# Altium schematic symbol library Eagle_WE-XTAL (rev21c) v1.SCHLIB: 18 symbols
Pins are listed as number, name and electrical type; pins without a type are passive.

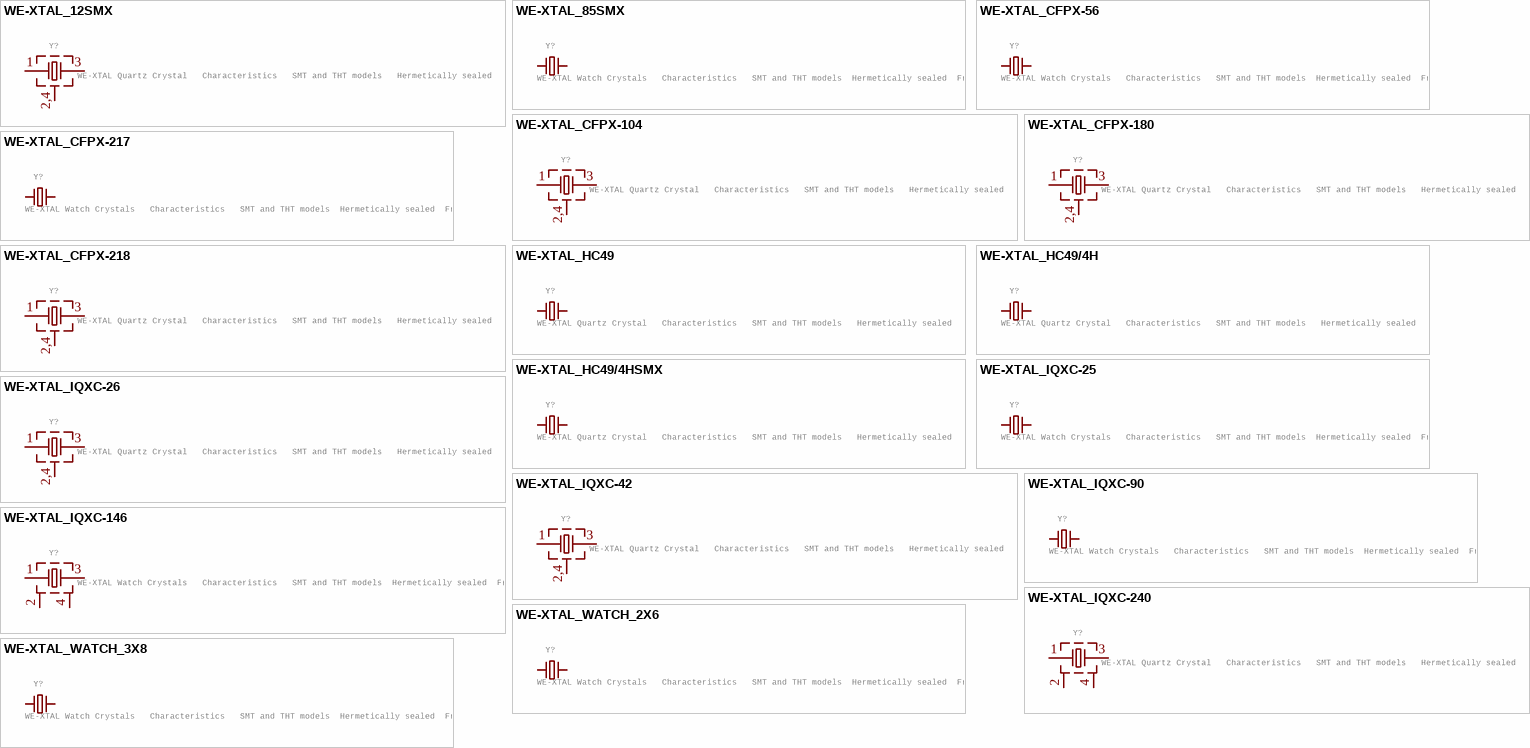
[diagram p0: symbols WE-XTAL_12SMX to WE-XTAL_WATCH_3X8]

## WE-XTAL_12SMX
designator Y?, comment WE-XTAL Quartz Crystal   Characteristics   SMT and THT models   Hermetically sealed   Frequencies between 1.8432 MHz and 50 MHz   Tolerances down to Â±10 ppm available   Maximum operating temperatures range: -40 Â°C to 85 Â°C   Stabilities down to Â±10 ppm available   Applications   Microprocessor   Wireless Communication Devices   Industrial Devices   Wired Communication (e.g. Ethernet and USB)   IoT   Optical Network   Audio and Multimedia Devices   Test and Measurement Equipment   Navigation and Locators   Wearables       Details see: https://www.we-online.com/catalog/en/WE-XTAL  Updated by Ella Wu , 2019-09-03  2019 (C) Wurth Elektronik
PART-NUMBER: 830026380; PART-NUMBER: 830026382; PART-NUMBER: 830026384; PART-NUMBER: 830026386; PART-NUMBER: 830026388; PART-NUMBER: 830026392; PART-NUMBER: 830026394; PART-NUMBER: 830026396; PART-NUMBER: 830026504; PART-NUMBER: 830059082; GateName_1: G$1; SymbolName_1: CRYSTAL-4PIN; DeviceSetName: WE-XTAL_12SMX; C-LOAD: 16pF; STABILITY: 50ppm; TOLERANCE: ±30ppm; C-LOAD: 10pF; TOLERANCE: ±20ppm; LibraryName: Eagle_WE-XTAL (rev21c) v1; Package: WE-XTAL_12SMX; DATASHEET-URL: https://www.we-online.com/catalog/datasheet/830026380.pdf; MOUNT: SMT; DATASHEET-URL: https://www.we-online.com/catalog/datasheet/830026382.pdf; DATASHEET-URL: https://www.we-online.com/catalog/datasheet/830026384.pdf; DATASHEET-URL: https://www.we-online.com/catalog/datasheet/830026386.pdf; DATASHEET-URL: https://www.we-online.com/catalog/datasheet/830026388.pdf; DATASHEET-URL: https://www.we-online.com/catalog/datasheet/830026392.pdf; DATASHEET-URL: https://www.we-online.com/catalog/datasheet/830026394.pdf; DATASHEET-URL: https://www.we-online.com/catalog/datasheet/830026396.pdf; DATASHEET-URL: https://www.we-online.com/catalog/datasheet/830026504.pdf; DATASHEET-URL: https://www.we-online.com/catalog/datasheet/830059082.pdf
footprint WE-XTAL_12SMX
pins: 1, 2,4 GND, 3 2

## WE-XTAL_85SMX
designator Y?, comment WE-XTAL Watch Crystals   Characteristics   SMT and THT models  Hermetically sealed  Frequency: 32.768 kHz  Tolerances down to Â±10 ppm available   Characteristics   Microprocessor  Real Time Clocks  Test and Measurement Equipment  Battery powered Applications       Details see: https://www.we-online.com/catalog/en/WE-XTAL_WATCHCRYSTAL  Updated by Ella Wu, 2020-10-30  2020 (C) Wurth Elektronik
PART-NUMBER: 830003000; PART-NUMBER: 830016178; GateName_1: G$1; DeviceSetName: WE-XTAL_85SMX; C-LOAD: 12.5pF; TOLERANCE: ±20ppm; C-LOAD: 6pF; SymbolName_1: CRYSTAL; LibraryName: Eagle_WE-XTAL (rev21c) v1; Package: WE-XTAL_85SMX; DATASHEET-URL: https://www.we-online.com/catalog/datasheet/830003000.pdf; MOUNT: SMT; DATASHEET-URL: https://www.we-online.com/catalog/datasheet/830016178.pdf
footprint WE-XTAL_85SMX
pins: 1, 4 2

## WE-XTAL_CFPX-56
designator Y?, comment WE-XTAL Watch Crystals   Characteristics   SMT and THT models  Hermetically sealed  Frequency: 32.768 kHz  Tolerances down to Â±10 ppm available   Characteristics   Microprocessor  Real Time Clocks  Test and Measurement Equipment  Battery powered Applications       Details see: https://www.we-online.com/catalog/en/WE-XTAL_WATCHCRYSTAL  Updated by Ella Wu, 2020-10-30  2020 (C) Wurth Elektronik
PART-NUMBER: 830025159; GateName_1: G$1; DeviceSetName: WE-XTAL_CFPX-56; C-LOAD: 12.5pF; TOLERANCE: ±20ppm; SymbolName_1: CRYSTAL; LibraryName: Eagle_WE-XTAL (rev21c) v1; Package: WE-XTAL_CFPX-56; DATASHEET-URL: https://www.we-online.com/catalog/datasheet/830025159.pdf; MOUNT: SMT
footprint WE-XTAL_CFPX-56
pins: 1, 2

## WE-XTAL_CFPX-104
designator Y?, comment WE-XTAL Quartz Crystal   Characteristics   SMT and THT models   Hermetically sealed   Frequencies between 1.8432 MHz and 50 MHz   Tolerances down to Â±10 ppm available   Maximum operating temperatures range: -40 Â°C to 85 Â°C   Stabilities down to Â±10 ppm available   Applications   Microprocessor   Wireless Communication Devices   Industrial Devices   Wired Communication (e.g. Ethernet and USB)   IoT   Optical Network   Audio and Multimedia Devices   Test and Measurement Equipment   Navigation and Locators   Wearables       Details see: https://www.we-online.com/catalog/en/WE-XTAL  Updated by Ella Wu , 2020-11-23 2020 (C) Wurth Elektronik
PART-NUMBER: 830030819; PART-NUMBER: 830030820; PART-NUMBER: 830032817; PART-NUMBER: 830032878; PART-NUMBER: 830033075; PART-NUMBER: 830033328; PART-NUMBER: 830033643; PART-NUMBER: 830033644; PART-NUMBER: 830033645; PART-NUMBER: 830036401; PART-NUMBER: 830053798; PART-NUMBER: 830055663; PART-NUMBER: 830055901; PART-NUMBER: 830055999; PART-NUMBER: 830056556; PART-NUMBER: 830056583; PART-NUMBER: 830056808; PART-NUMBER: 830059477; PART-NUMBER: 830059522; PART-NUMBER: 830059523; PART-NUMBER: 830059526; PART-NUMBER: 830059528; PART-NUMBER: 830059529; PART-NUMBER: 830059530; PART-NUMBER: 830059531; PART-NUMBER: 830059532; PART-NUMBER: 830059535; PART-NUMBER: 830059537; PART-NUMBER: 830059539; PART-NUMBER: 830061486; PART-NUMBER: 830065460; PART-NUMBER: 830072402; PART-NUMBER: 830072403; PART-NUMBER: 830072404; PART-NUMBER: 830106162701; PART-NUMBER: 830106163301; GateName_1: G$1; SymbolName_1: CRYSTAL-4PIN; DeviceSetName: WE-XTAL_CFPX-104; C-LOAD: 18pF; STABILITY: 50ppm; TOLERANCE: ±50ppm; TOLERANCE: ±20ppm; STABILITY: 25ppm; TOLERANCE: ±10ppm; STABILITY: 30ppm; TOLERANCE: ±30ppm; C-LOAD: 12pF; C-LOAD: 15pF; STABILITY: 20ppm; C-LOAD: 10pF; C-LOAD: 16pF; LibraryName: Eagle_WE-XTAL (rev21c) v1; Package: WE-XTAL_CFPX-104; DATASHEET-URL: https://www.we-online.com/catalog/datasheet/830030819.pdf; MOUNT: SMT; DATASHEET-URL: https://www.we-online.com/catalog/datasheet/830030820.pdf; DATASHEET-URL: https://www.we-online.com/catalog/datasheet/830032817.pdf; DATASHEET-URL: https://www.we-online.com/catalog/datasheet/830032878.pdf; DATASHEET-URL: https://www.we-online.com/catalog/datasheet/830033075.pdf; DATASHEET-URL: https://www.we-online.com/catalog/datasheet/830033328.pdf; DATASHEET-URL: https://www.we-online.com/catalog/datasheet/830033643.pdf; DATASHEET-URL: https://www.we-online.com/catalog/datasheet/830033644.pdf; DATASHEET-URL: https://www.we-online.com/catalog/datasheet/830033645.pdf; DATASHEET-URL: https://www.we-online.com/catalog/datasheet/830036401.pdf; DATASHEET-URL: https://www.we-online.com/catalog/datasheet/830053798.pdf; DATASHEET-URL: https://www.we-online.com/catalog/datasheet/830055663.pdf; DATASHEET-URL: https://www.we-online.com/catalog/datasheet/830055901.pdf; DATASHEET-URL: https://www.we-online.com/catalog/datasheet/830055999.pdf; DATASHEET-URL: https://www.we-online.com/catalog/datasheet/830056556.pdf; DATASHEET-URL: https://www.we-online.com/catalog/datasheet/830056583.pdf; DATASHEET-URL: https://www.we-online.com/catalog/datasheet/830056808.pdf; DATASHEET-URL: https://www.we-online.com/catalog/datasheet/830059477.pdf; DATASHEET-URL: https://www.we-online.com/catalog/datasheet/830059522.pdf; DATASHEET-URL: https://www.we-online.com/catalog/datasheet/830059523.pdf; DATASHEET-URL: https://www.we-online.com/catalog/datasheet/830059526.pdf; DATASHEET-URL: https://www.we-online.com/catalog/datasheet/830059528.pdf; DATASHEET-URL: https://www.we-online.com/catalog/datasheet/830059529.pdf; DATASHEET-URL: https://www.we-online.com/catalog/datasheet/830059530.pdf; DATASHEET-URL: https://www.we-online.com/catalog/datasheet/830059531.pdf; DATASHEET-URL: https://www.we-online.com/catalog/datasheet/830059532.pdf; DATASHEET-URL: https://www.we-online.com/catalog/datasheet/830059535.pdf; DATASHEET-URL: https://www.we-online.com/catalog/datasheet/830059537.pdf; DATASHEET-URL: https://www.we-online.com/catalog/datasheet/830059539.pdf; DATASHEET-URL: https://www.we-online.com/catalog/datasheet/830061486.pdf; DATASHEET-URL: https://www.we-online.com/catalog/datasheet/830065460.pdf; DATASHEET-URL: https://www.we-online.com/catalog/datasheet/830072402.pdf; DATASHEET-URL: https://www.we-online.com/catalog/datasheet/830072403.pdf; DATASHEET-URL: https://www.we-online.com/catalog/datasheet/830072404.pdf; DATASHEET-URL: https://www.we-online.com/catalog/datasheet/830106162701.pdf; DATASHEET-URL: https://www.we-online.com/catalog/datasheet/830106163301.pdf
footprint WE-XTAL_CFPX-104
pins: 1, 2,4 GND, 3 2

## WE-XTAL_CFPX-180
designator Y?, comment WE-XTAL Quartz Crystal   Characteristics   SMT and THT models   Hermetically sealed   Frequencies between 1.8432 MHz and 50 MHz   Tolerances down to Â±10 ppm available   Maximum operating temperatures range: -40 Â°C to 85 Â°C   Stabilities down to Â±10 ppm available   Applications   Microprocessor   Wireless Communication Devices   Industrial Devices   Wired Communication (e.g. Ethernet and USB)   IoT   Optical Network   Audio and Multimedia Devices   Test and Measurement Equipment   Navigation and Locators   Wearables       Details see: https://www.we-online.com/catalog/en/WE-XTAL  Updated by Ella Wu , 2020-11-23 2020 (C) Wurth Elektronik
PART-NUMBER: 830035264; PART-NUMBER: 830035265; PART-NUMBER: 830035266; PART-NUMBER: 830035267; PART-NUMBER: 830035268; PART-NUMBER: 830035269; PART-NUMBER: 830035503; PART-NUMBER: 830051068; PART-NUMBER: 830053099; PART-NUMBER: 830055293; PART-NUMBER: 830055295; PART-NUMBER: 830055299; PART-NUMBER: 830055474; PART-NUMBER: 830055951; PART-NUMBER: 830055962; PART-NUMBER: 830056346; PART-NUMBER: 830057824; PART-NUMBER: 830058124; PART-NUMBER: 830058149; PART-NUMBER: 830059638; PART-NUMBER: 830059643; PART-NUMBER: 830059646; PART-NUMBER: 830059648; PART-NUMBER: 830059800; PART-NUMBER: 830060258; PART-NUMBER: 830060843; PART-NUMBER: 830061647; PART-NUMBER: 830061648; PART-NUMBER: 830061677; PART-NUMBER: 830063321; PART-NUMBER: 830064296; PART-NUMBER: 830064703; PART-NUMBER: 830068911; PART-NUMBER: 830069377; PART-NUMBER: 830069882; PART-NUMBER: 830069944; PART-NUMBER: 830070868; PART-NUMBER: 830072604; PART-NUMBER: 830082070; PART-NUMBER: 830100965009; PART-NUMBER: 830103552209; PART-NUMBER: 830103622909; PART-NUMBER: 830105420809; PART-NUMBER: 830105863709; PART-NUMBER: 830105957509; PART-NUMBER: 830105961109; PART-NUMBER: 830105961309; PART-NUMBER: 830105961509; PART-NUMBER: 830105961709; PART-NUMBER: 830106246109; PART-NUMBER: 830107006509; PART-NUMBER: 830107878109; PART-NUMBER: 830108174209; PART-NUMBER: 830108206909; PART-NUMBER: 830108207109; PART-NUMBER: 830108207209; PART-NUMBER: 830108207309; PART-NUMBER: 830108207409; PART-NUMBER: 830108207509; PART-NUMBER: 830108207609; PART-NUMBER: 830108207709; PART-NUMBER: 830108207809; PART-NUMBER: 830108313809; PART-NUMBER: 830108338709; PART-NUMBER: 830108338809; PART-NUMBER: 830108340709; PART-NUMBER: 830108340809; PART-NUMBER: 830108340909; GateName_1: G$1; SymbolName_1: CRYSTAL-4PIN; DeviceSetName: WE-XTAL_CFPX-180; C-LOAD: 16pF; STABILITY: 50ppm; TOLERANCE: ±50ppm; C-LOAD: 9pF; STABILITY: 10ppm; TOLERANCE: ±10ppm; C-LOAD: 10pF; C-LOAD: 18pF; STABILITY: 30ppm; TOLERANCE: ±20ppm; C-LOAD: 12pF; TOLERANCE: ±30ppm; STABILITY: 25ppm; TOLERANCE: ±25ppm; C-LOAD: 8pF; STABILITY: 20ppm; STABILITY: 100ppm; C-LOAD: 15pF; STABILITY: 15ppm; LibraryName: Eagle_WE-XTAL (rev21c) v1; Package: WE-XTAL_CFPX-180; DATASHEET-URL: https://www.we-online.com/catalog/datasheet/830035264.pdf; MOUNT: SMT; DATASHEET-URL: https://www.we-online.com/catalog/datasheet/830035265.pdf; DATASHEET-URL: https://www.we-online.com/catalog/datasheet/830035266.pdf; DATASHEET-URL: https://www.we-online.com/catalog/datasheet/830035267.pdf; DATASHEET-URL: https://www.we-online.com/catalog/datasheet/830035268.pdf; DATASHEET-URL: https://www.we-online.com/catalog/datasheet/830035269.pdf; DATASHEET-URL: https://www.we-online.com/catalog/datasheet/830035503.pdf; DATASHEET-URL: https://www.we-online.com/catalog/datasheet/830051068.pdf; DATASHEET-URL: https://www.we-online.com/catalog/datasheet/830053099.pdf; DATASHEET-URL: https://www.we-online.com/catalog/datasheet/830055293.pdf; DATASHEET-URL: https://www.we-online.com/catalog/datasheet/830055295.pdf; DATASHEET-URL: https://www.we-online.com/catalog/datasheet/830055299.pdf; DATASHEET-URL: https://www.we-online.com/catalog/datasheet/830055474.pdf; DATASHEET-URL: https://www.we-online.com/catalog/datasheet/830055951.pdf; DATASHEET-URL: https://www.we-online.com/catalog/datasheet/830055962.pdf; DATASHEET-URL: https://www.we-online.com/catalog/datasheet/830056346.pdf; DATASHEET-URL: https://www.we-online.com/catalog/datasheet/830057824.pdf; DATASHEET-URL: https://www.we-online.com/catalog/datasheet/830058124.pdf; DATASHEET-URL: https://www.we-online.com/catalog/datasheet/830058149.pdf; DATASHEET-URL: https://www.we-online.com/catalog/datasheet/830059638.pdf; DATASHEET-URL: https://www.we-online.com/catalog/datasheet/830059643.pdf; DATASHEET-URL: https://www.we-online.com/catalog/datasheet/830059646.pdf; DATASHEET-URL: https://www.we-online.com/catalog/datasheet/830059648.pdf; DATASHEET-URL: https://www.we-online.com/catalog/datasheet/830059800.pdf; DATASHEET-URL: https://www.we-online.com/catalog/datasheet/830060258.pdf; DATASHEET-URL: https://www.we-online.com/catalog/datasheet/830060843.pdf; DATASHEET-URL: https://www.we-online.com/catalog/datasheet/830061647.pdf; DATASHEET-URL: https://www.we-online.com/catalog/datasheet/830061648.pdf; DATASHEET-URL: https://www.we-online.com/catalog/datasheet/830061677.pdf; DATASHEET-URL: https://www.we-online.com/catalog/datasheet/830063321.pdf; DATASHEET-URL: https://www.we-online.com/catalog/datasheet/830064296.pdf; DATASHEET-URL: https://www.we-online.com/catalog/datasheet/830064703.pdf; DATASHEET-URL: https://www.we-online.com/catalog/datasheet/830068911.pdf; DATASHEET-URL: https://www.we-online.com/catalog/datasheet/830069377.pdf; DATASHEET-URL: https://www.we-online.com/catalog/datasheet/830069882.pdf; DATASHEET-URL: https://www.we-online.com/catalog/datasheet/830069944.pdf; DATASHEET-URL: https://www.we-online.com/catalog/datasheet/830070868.pdf; DATASHEET-URL: https://www.we-online.com/catalog/datasheet/830072604.pdf; DATASHEET-URL: https://www.we-online.com/catalog/datasheet/830082070.pdf; DATASHEET-URL: https://www.we-online.com/catalog/datasheet/830100965009.pdf; DATASHEET-URL: https://www.we-online.com/catalog/datasheet/830103552209.pdf; DATASHEET-URL: https://www.we-online.com/catalog/datasheet/830103622909.pdf; DATASHEET-URL: https://www.we-online.com/catalog/datasheet/830105420809.pdf; DATASHEET-URL: https://www.we-online.com/catalog/datasheet/830105863709.pdf; DATASHEET-URL: https://www.we-online.com/catalog/datasheet/830105957509.pdf; DATASHEET-URL: https://www.we-online.com/catalog/datasheet/830105961109.pdf; DATASHEET-URL: https://www.we-online.com/catalog/datasheet/830105961309.pdf; DATASHEET-URL: https://www.we-online.com/catalog/datasheet/830105961509.pdf; DATASHEET-URL: https://www.we-online.com/catalog/datasheet/830105961709.pdf; DATASHEET-URL: https://www.we-online.com/catalog/datasheet/830106246109.pdf; DATASHEET-URL: https://www.we-online.com/catalog/datasheet/830107006509.pdf; DATASHEET-URL: https://www.we-online.com/catalog/datasheet/830107878109.pdf; DATASHEET-URL: https://www.we-online.com/catalog/datasheet/830108174209.pdf; DATASHEET-URL: https://www.we-online.com/catalog/datasheet/830108206909.pdf; DATASHEET-URL: https://www.we-online.com/catalog/datasheet/830108207109.pdf; DATASHEET-URL: https://www.we-online.com/catalog/datasheet/830108207209.pdf; DATASHEET-URL: https://www.we-online.com/catalog/datasheet/830108207309.pdf; DATASHEET-URL: https://www.we-online.com/catalog/datasheet/830108207409.pdf; DATASHEET-URL: https://www.we-online.com/catalog/datasheet/830108207509.pdf; DATASHEET-URL: https://www.we-online.com/catalog/datasheet/830108207609.pdf; DATASHEET-URL: https://www.we-online.com/catalog/datasheet/830108207709.pdf; DATASHEET-URL: https://www.we-online.com/catalog/datasheet/830108207809.pdf; DATASHEET-URL: https://www.we-online.com/catalog/datasheet/830108313809.pdf; DATASHEET-URL: https://www.we-online.com/catalog/datasheet/830108338709.pdf; DATASHEET-URL: https://www.we-online.com/catalog/datasheet/830108338809.pdf; DATASHEET-URL: https://www.we-online.com/catalog/datasheet/830108340709.pdf; DATASHEET-URL: https://www.we-online.com/catalog/datasheet/830108340809.pdf; DATASHEET-URL: https://www.we-online.com/catalog/datasheet/830108340909.pdf
footprint WE-XTAL_CFPX-180
pins: 1, 2,4 GND, 3 2

## WE-XTAL_CFPX-217
designator Y?, comment WE-XTAL Watch Crystals   Characteristics   SMT and THT models  Hermetically sealed  Frequency: 32.768 kHz  Tolerances down to Â±10 ppm available   Characteristics   Microprocessor  Real Time Clocks  Test and Measurement Equipment  Battery powered Applications       Details see: https://www.we-online.com/catalog/en/WE-XTAL_WATCHCRYSTAL  Updated by Ella Wu, 2020-10-30  2020 (C) Wurth Elektronik
PART-NUMBER: 830009678; PART-NUMBER: 830009706; PART-NUMBER: 830009709; PART-NUMBER: 830054236; GateName_1: G$1; DeviceSetName: WE-XTAL_CFPX-217; C-LOAD: 12.5pF; TOLERANCE: ±20ppm; C-LOAD: 9pF; C-LOAD: 7pF; C-LOAD: 6pF; SymbolName_1: CRYSTAL; LibraryName: Eagle_WE-XTAL (rev21c) v1; Package: WE-XTAL_CFPX-217; DATASHEET-URL: https://www.we-online.com/catalog/datasheet/830009678.pdf; MOUNT: SMT; DATASHEET-URL: https://www.we-online.com/catalog/datasheet/830009706.pdf; DATASHEET-URL: https://www.we-online.com/catalog/datasheet/830009709.pdf; DATASHEET-URL: https://www.we-online.com/catalog/datasheet/830054236.pdf
footprint WE-XTAL_CFPX-217
pins: 1, 2

## WE-XTAL_CFPX-218
designator Y?, comment WE-XTAL Quartz Crystal   Characteristics   SMT and THT models   Hermetically sealed   Frequencies between 1.8432 MHz and 50 MHz   Tolerances down to Â±10 ppm available   Maximum operating temperatures range: -40 Â°C to 85 Â°C   Stabilities down to Â±10 ppm available   Applications   Microprocessor   Wireless Communication Devices   Industrial Devices   Wired Communication (e.g. Ethernet and USB)   IoT   Optical Network   Audio and Multimedia Devices   Test and Measurement Equipment   Navigation and Locators   Wearables       Details see: https://www.we-online.com/catalog/en/WE-XTAL  Updated by Ella Wu , 2019-09-03  2019 (C) Wurth Elektronik
PART-NUMBER: 830050991; PART-NUMBER: 830063334; PART-NUMBER: 830069381; PART-NUMBER: 830069383; PART-NUMBER: 830069387; PART-NUMBER: 830069390; PART-NUMBER: 830069392; PART-NUMBER: 830069395; PART-NUMBER: 830069400; PART-NUMBER: 830069404; PART-NUMBER: 830069405; PART-NUMBER: 830069407; PART-NUMBER: 830107284409; PART-NUMBER: 830107820709; PART-NUMBER: 830107871909; PART-NUMBER: 830108186509; PART-NUMBER: 830108208009; PART-NUMBER: 830108208109; PART-NUMBER: 830108208209; PART-NUMBER: 830108208409; PART-NUMBER: 830108208709; PART-NUMBER: 830108208809; GateName_1: G$1; SymbolName_1: CRYSTAL-4PIN; DeviceSetName: WE-XTAL_CFPX-218; C-LOAD: 10pF; STABILITY: 20ppm; TOLERANCE: ±20ppm; C-LOAD: 18pF; STABILITY: 10ppm; TOLERANCE: ±10ppm; LibraryName: Eagle_WE-XTAL (rev21c) v1; Package: WE-XTAL_CFPX-218; DATASHEET-URL: https://www.we-online.com/catalog/datasheet/830050991.pdf; MOUNT: SMT; DATASHEET-URL: https://www.we-online.com/catalog/datasheet/830063334.pdf; DATASHEET-URL: https://www.we-online.com/catalog/datasheet/830069381.pdf; DATASHEET-URL: https://www.we-online.com/catalog/datasheet/830069383.pdf; DATASHEET-URL: https://www.we-online.com/catalog/datasheet/830069387.pdf; DATASHEET-URL: https://www.we-online.com/catalog/datasheet/830069390.pdf; DATASHEET-URL: https://www.we-online.com/catalog/datasheet/830069392.pdf; DATASHEET-URL: https://www.we-online.com/catalog/datasheet/830069395.pdf; DATASHEET-URL: https://www.we-online.com/catalog/datasheet/830069400.pdf; DATASHEET-URL: https://www.we-online.com/catalog/datasheet/830069404.pdf; DATASHEET-URL: https://www.we-online.com/catalog/datasheet/830069405.pdf; DATASHEET-URL: https://www.we-online.com/catalog/datasheet/830069407.pdf; DATASHEET-URL: https://www.we-online.com/catalog/datasheet/830107284409.pdf; DATASHEET-URL: https://www.we-online.com/catalog/datasheet/830107820709.pdf; DATASHEET-URL: https://www.we-online.com/catalog/datasheet/830107871909.pdf; DATASHEET-URL: https://www.we-online.com/catalog/datasheet/830108186509.pdf; DATASHEET-URL: https://www.we-online.com/catalog/datasheet/830108208009.pdf; DATASHEET-URL: https://www.we-online.com/catalog/datasheet/830108208109.pdf; DATASHEET-URL: https://www.we-online.com/catalog/datasheet/830108208209.pdf; DATASHEET-URL: https://www.we-online.com/catalog/datasheet/830108208409.pdf; DATASHEET-URL: https://www.we-online.com/catalog/datasheet/830108208709.pdf; DATASHEET-URL: https://www.we-online.com/catalog/datasheet/830108208809.pdf
footprint WE-XTAL_CFPX-218
pins: 1, 2,4 GND, 3 2

## WE-XTAL_HC49
designator Y?, comment WE-XTAL Quartz Crystal   Characteristics   SMT and THT models   Hermetically sealed   Frequencies between 1.8432 MHz and 50 MHz   Tolerances down to Â±10 ppm available   Maximum operating temperatures range: -40 Â°C to 85 Â°C   Stabilities down to Â±10 ppm available   Applications   Microprocessor   Wireless Communication Devices   Industrial Devices   Wired Communication (e.g. Ethernet and USB)   IoT   Optical Network   Audio and Multimedia Devices   Test and Measurement Equipment   Navigation and Locators   Wearables       Details see: https://www.we-online.com/catalog/en/WE-XTAL  Updated by Ella Wu , 2019-09-03  2019 (C) Wurth Elektronik
PART-NUMBER: 830003033B; PART-NUMBER: 830003037B; PART-NUMBER: 830003044B; PART-NUMBER: 830003051B; PART-NUMBER: 830003056B; PART-NUMBER: 830003068B; PART-NUMBER: 830003086B; PART-NUMBER: 830003099B; PART-NUMBER: 830003110B; PART-NUMBER: 830003127B; PART-NUMBER: 830003134B; PART-NUMBER: 830003147B; PART-NUMBER: 830003164B; PART-NUMBER: 830003174B; PART-NUMBER: 830003177B; PART-NUMBER: 830003179B; PART-NUMBER: 830003206B; PART-NUMBER: 830003218B; PART-NUMBER: 830003231B; PART-NUMBER: 830003257B; PART-NUMBER: 830003277B; PART-NUMBER: 830003298B; PART-NUMBER: 830003312B; PART-NUMBER: 830003327B; PART-NUMBER: 830003329B; PART-NUMBER: 830003342B; PART-NUMBER: 830003386B; PART-NUMBER: 830003515B; GateName_1: G$1; DeviceSetName: WE-XTAL_HC49; C-LOAD: 30pF; STABILITY: 50ppm; TOLERANCE: ±20ppm; C-LOAD: 20pF; STABILITY: 100ppm; TOLERANCE: ±50ppm; C-LOAD: 12pF; STABILITY: 30ppm; SymbolName_1: CRYSTAL; LibraryName: Eagle_WE-XTAL (rev21c) v1; Package: WE-XTAL_HC49; DATASHEET-URL: https://www.we-online.com/catalog/datasheet/830003033B.pdf; MOUNT: THT; DATASHEET-URL: https://www.we-online.com/catalog/datasheet/830003037B.pdf; DATASHEET-URL: https://www.we-online.com/catalog/datasheet/830003044B.pdf; DATASHEET-URL: https://www.we-online.com/catalog/datasheet/830003051B.pdf; DATASHEET-URL: https://www.we-online.com/catalog/datasheet/830003056B.pdf; DATASHEET-URL: https://www.we-online.com/catalog/datasheet/830003068B.pdf; DATASHEET-URL: https://www.we-online.com/catalog/datasheet/830003086B.pdf; DATASHEET-URL: https://www.we-online.com/catalog/datasheet/830003099B.pdf; DATASHEET-URL: https://www.we-online.com/catalog/datasheet/830003110B.pdf; DATASHEET-URL: https://www.we-online.com/catalog/datasheet/830003127B.pdf; DATASHEET-URL: https://www.we-online.com/catalog/datasheet/830003134B.pdf; DATASHEET-URL: https://www.we-online.com/catalog/datasheet/830003147B.pdf; DATASHEET-URL: https://www.we-online.com/catalog/datasheet/830003164B.pdf; C-LOAD: -; DATASHEET-URL: https://www.we-online.com/catalog/datasheet/830003174B.pdf; DATASHEET-URL: https://www.we-online.com/catalog/datasheet/830003177B.pdf; DATASHEET-URL: https://www.we-online.com/catalog/datasheet/830003179B.pdf; DATASHEET-URL: https://www.we-online.com/catalog/datasheet/830003206B.pdf; DATASHEET-URL: https://www.we-online.com/catalog/datasheet/830003218B.pdf; DATASHEET-URL: https://www.we-online.com/catalog/datasheet/830003231B.pdf; DATASHEET-URL: https://www.we-online.com/catalog/datasheet/830003257B.pdf; DATASHEET-URL: https://www.we-online.com/catalog/datasheet/830003277B.pdf; DATASHEET-URL: https://www.we-online.com/catalog/datasheet/830003298B.pdf; DATASHEET-URL: https://www.we-online.com/catalog/datasheet/830003312B.pdf; DATASHEET-URL: https://www.we-online.com/catalog/datasheet/830003327B.pdf; DATASHEET-URL: https://www.we-online.com/catalog/datasheet/830003329B.pdf; DATASHEET-URL: https://www.we-online.com/catalog/datasheet/830003342B.pdf; DATASHEET-URL: https://www.we-online.com/catalog/datasheet/830003386B.pdf; DATASHEET-URL: https://www.we-online.com/catalog/datasheet/830003515B.pdf
footprint WE-XTAL_HC49
pins: 1, 2

## WE-XTAL_HC49/4H
designator Y?, comment WE-XTAL Quartz Crystal   Characteristics   SMT and THT models   Hermetically sealed   Frequencies between 1.8432 MHz and 50 MHz   Tolerances down to Â±10 ppm available   Maximum operating temperatures range: -40 Â°C to 85 Â°C   Stabilities down to Â±10 ppm available   Applications   Microprocessor   Wireless Communication Devices   Industrial Devices   Wired Communication (e.g. Ethernet and USB)   IoT   Optical Network   Audio and Multimedia Devices   Test and Measurement Equipment   Navigation and Locators   Wearables       Details see: https://www.we-online.com/catalog/en/WE-XTAL  Updated by Ella Wu , 2019-09-03  2019 (C) Wurth Elektronik
PART-NUMBER: 830003063B; PART-NUMBER: 830003074B; PART-NUMBER: 830003084B; PART-NUMBER: 830003093B; PART-NUMBER: 830003102B; PART-NUMBER: 830003115B; PART-NUMBER: 830003119B; PART-NUMBER: 830003132B; PART-NUMBER: 830003137B; PART-NUMBER: 830003156B; PART-NUMBER: 830003169B; PART-NUMBER: 830003176B; PART-NUMBER: 830003185B; PART-NUMBER: 830003186B; PART-NUMBER: 830003200B; PART-NUMBER: 830003215B; PART-NUMBER: 830003224B; PART-NUMBER: 830003240B; PART-NUMBER: 830003263B; PART-NUMBER: 830003271B; PART-NUMBER: 830003279B; PART-NUMBER: 830003286B; PART-NUMBER: 830003309B; PART-NUMBER: 830003325B; PART-NUMBER: 830003335B; PART-NUMBER: 830003336B; PART-NUMBER: 830003523B; PART-NUMBER: 830014948B; PART-NUMBER: 830018496B; PART-NUMBER: 830024985B; PART-NUMBER: 830027298B; PART-NUMBER: 830031646B; PART-NUMBER: 830032341B; PART-NUMBER: 830058383B; GateName_1: G$1; DeviceSetName: WE-XTAL_HC49/4H; C-LOAD: 20pF; STABILITY: 50ppm; TOLERANCE: ±30ppm; C-LOAD: 30pF; TOLERANCE: ±20ppm; C-LOAD: 12pF; C-LOAD: 18pF; STABILITY: 30ppm; TOLERANCE: ±15ppm; SymbolName_1: CRYSTAL; LibraryName: Eagle_WE-XTAL (rev21c) v1; Package: WE-XTAL_HC49/4H; DATASHEET-URL: https://www.we-online.com/catalog/datasheet/830003063B.pdf; MOUNT: THT; DATASHEET-URL: https://www.we-online.com/catalog/datasheet/830003074B.pdf; DATASHEET-URL: https://www.we-online.com/catalog/datasheet/830003084B.pdf; DATASHEET-URL: https://www.we-online.com/catalog/datasheet/830003093B.pdf; DATASHEET-URL: https://www.we-online.com/catalog/datasheet/830003102B.pdf; DATASHEET-URL: https://www.we-online.com/catalog/datasheet/830003115B.pdf; DATASHEET-URL: https://www.we-online.com/catalog/datasheet/830003119B.pdf; DATASHEET-URL: https://www.we-online.com/catalog/datasheet/830003132B.pdf; DATASHEET-URL: https://www.we-online.com/catalog/datasheet/830003137B.pdf; DATASHEET-URL: https://www.we-online.com/catalog/datasheet/830003156B.pdf; DATASHEET-URL: https://www.we-online.com/catalog/datasheet/830003169B.pdf; DATASHEET-URL: https://www.we-online.com/catalog/datasheet/830003176B.pdf; DATASHEET-URL: https://www.we-online.com/catalog/datasheet/830003185B.pdf; DATASHEET-URL: https://www.we-online.com/catalog/datasheet/830003186B.pdf; DATASHEET-URL: https://www.we-online.com/catalog/datasheet/830003200B.pdf; DATASHEET-URL: https://www.we-online.com/catalog/datasheet/830003215B.pdf; DATASHEET-URL: https://www.we-online.com/catalog/datasheet/830003224B.pdf; DATASHEET-URL: https://www.we-online.com/catalog/datasheet/830003240B.pdf; DATASHEET-URL: https://www.we-online.com/catalog/datasheet/830003263B.pdf; DATASHEET-URL: https://www.we-online.com/catalog/datasheet/830003271B.pdf; DATASHEET-URL: https://www.we-online.com/catalog/datasheet/830003279B.pdf; DATASHEET-URL: https://www.we-online.com/catalog/datasheet/830003286B.pdf; DATASHEET-URL: https://www.we-online.com/catalog/datasheet/830003309B.pdf; DATASHEET-URL: https://www.we-online.com/catalog/datasheet/830003325B.pdf; DATASHEET-URL: https://www.we-online.com/catalog/datasheet/830003335B.pdf; DATASHEET-URL: https://www.we-online.com/catalog/datasheet/830003336B.pdf; DATASHEET-URL: https://www.we-online.com/catalog/datasheet/830003523B.pdf; C-LOAD: -; DATASHEET-URL: https://www.we-online.com/catalog/datasheet/830014948B.pdf; DATASHEET-URL: https://www.we-online.com/catalog/datasheet/830018496B.pdf; DATASHEET-URL: https://www.we-online.com/catalog/datasheet/830024985B.pdf; DATASHEET-URL: https://www.we-online.com/catalog/datasheet/830027298B.pdf; DATASHEET-URL: https://www.we-online.com/catalog/datasheet/830031646B.pdf; DATASHEET-URL: https://www.we-online.com/catalog/datasheet/830032341B.pdf; DATASHEET-URL: https://www.we-online.com/catalog/datasheet/830058383B.pdf
footprint WE-XTAL_HC49/4H
pins: 1, 2

## WE-XTAL_HC49/4HSMX
designator Y?, comment WE-XTAL Quartz Crystal   Characteristics   SMT and THT models   Hermetically sealed   Frequencies between 1.8432 MHz and 50 MHz   Tolerances down to Â±10 ppm available   Maximum operating temperatures range: -40 Â°C to 85 Â°C   Stabilities down to Â±10 ppm available   Applications   Microprocessor   Wireless Communication Devices   Industrial Devices   Wired Communication (e.g. Ethernet and USB)   IoT   Optical Network   Audio and Multimedia Devices   Test and Measurement Equipment   Navigation and Locators   Wearables       Details see: https://www.we-online.com/catalog/en/WE-XTAL  Updated by Ella Wu , 2019-09-03  2019 (C) Wurth Elektronik
PART-NUMBER: 830003058; PART-NUMBER: 830003071; PART-NUMBER: 830003151; PART-NUMBER: 830003166; PART-NUMBER: 830003181; PART-NUMBER: 830003210; PART-NUMBER: 830003237; PART-NUMBER: 830003260; PART-NUMBER: 830003334; PART-NUMBER: 830003387; PART-NUMBER: 830003519; PART-NUMBER: 830010043; PART-NUMBER: 830010595; PART-NUMBER: 830010689; PART-NUMBER: 830011263; PART-NUMBER: 830011300; PART-NUMBER: 830011301; PART-NUMBER: 830012312; PART-NUMBER: 830012313; PART-NUMBER: 830012504; PART-NUMBER: 830015023; PART-NUMBER: 830015055; PART-NUMBER: 830016788; PART-NUMBER: 830017145; PART-NUMBER: 830017146; PART-NUMBER: 830018153; PART-NUMBER: 830020131; PART-NUMBER: 830020423; PART-NUMBER: 830021675; PART-NUMBER: 830024940; PART-NUMBER: 830026548; PART-NUMBER: 830026900; PART-NUMBER: 830026902; PART-NUMBER: 830026904; PART-NUMBER: 830026908; PART-NUMBER: 830026911; PART-NUMBER: 830027527; PART-NUMBER: 830028392; PART-NUMBER: 830028430; PART-NUMBER: 830028710; PART-NUMBER: 830028928; PART-NUMBER: 830029370; PART-NUMBER: 830029914; PART-NUMBER: 830030798; PART-NUMBER: 830033158; PART-NUMBER: 830033580; PART-NUMBER: 830034122; PART-NUMBER: 830034225; PART-NUMBER: 830034439; PART-NUMBER: 830034654; PART-NUMBER: 830035293; PART-NUMBER: 830036034; PART-NUMBER: 830036533; PART-NUMBER: 830036956; PART-NUMBER: 830050510; PART-NUMBER: 830051235; PART-NUMBER: 830054555; PART-NUMBER: 830056463; PART-NUMBER: 830061856; PART-NUMBER: 830063075; GateName_1: G$1; DeviceSetName: WE-XTAL_HC49/4HSMX; C-LOAD: 16pF; STABILITY: 50ppm; TOLERANCE: ±30ppm; C-LOAD: 20pF; C-LOAD: 30pF; C-LOAD: 18pF; TOLERANCE: ±20ppm; STABILITY: 100ppm; TOLERANCE: ±50ppm; STABILITY: 30ppm; C-LOAD: 12pF; STABILITY: 20ppm; STABILITY: 10ppm; TOLERANCE: ±10ppm; C-LOAD: 22pF; SymbolName_1: CRYSTAL; LibraryName: Eagle_WE-XTAL (rev21c) v1; Package: WE-XTAL_HC49/4HSMX; DATASHEET-URL: https://www.we-online.com/catalog/datasheet/830003058.pdf; MOUNT: SMT; DATASHEET-URL: https://www.we-online.com/catalog/datasheet/830003071.pdf; DATASHEET-URL: https://www.we-online.com/catalog/datasheet/830003151.pdf; DATASHEET-URL: https://www.we-online.com/catalog/datasheet/830003166.pdf; DATASHEET-URL: https://www.we-online.com/catalog/datasheet/830003181.pdf; DATASHEET-URL: https://www.we-online.com/catalog/datasheet/830003210.pdf; DATASHEET-URL: https://www.we-online.com/catalog/datasheet/830003237.pdf; DATASHEET-URL: https://www.we-online.com/catalog/datasheet/830003260.pdf; DATASHEET-URL: https://www.we-online.com/catalog/datasheet/830003334.pdf; DATASHEET-URL: https://www.we-online.com/catalog/datasheet/830003387.pdf; DATASHEET-URL: https://www.we-online.com/catalog/datasheet/830003519.pdf; DATASHEET-URL: https://www.we-online.com/catalog/datasheet/830010043.pdf; DATASHEET-URL: https://www.we-online.com/catalog/datasheet/830010595.pdf; DATASHEET-URL: https://www.we-online.com/catalog/datasheet/830010689.pdf; DATASHEET-URL: https://www.we-online.com/catalog/datasheet/830011263.pdf; DATASHEET-URL: https://www.we-online.com/catalog/datasheet/830011300.pdf; DATASHEET-URL: https://www.we-online.com/catalog/datasheet/830011301.pdf; DATASHEET-URL: https://www.we-online.com/catalog/datasheet/830012312.pdf; DATASHEET-URL: https://www.we-online.com/catalog/datasheet/830012313.pdf; DATASHEET-URL: https://www.we-online.com/catalog/datasheet/830012504.pdf; DATASHEET-URL: https://www.we-online.com/catalog/datasheet/830015023.pdf; DATASHEET-URL: https://www.we-online.com/catalog/datasheet/830015055.pdf; DATASHEET-URL: https://www.we-online.com/catalog/datasheet/830016788.pdf; DATASHEET-URL: https://www.we-online.com/catalog/datasheet/830017145.pdf; DATASHEET-URL: https://www.we-online.com/catalog/datasheet/830017146.pdf; DATASHEET-URL: https://www.we-online.com/catalog/datasheet/830018153.pdf; DATASHEET-URL: https://www.we-online.com/catalog/datasheet/830020131.pdf; DATASHEET-URL: https://www.we-online.com/catalog/datasheet/830020423.pdf; DATASHEET-URL: https://www.we-online.com/catalog/datasheet/830021675.pdf; DATASHEET-URL: https://www.we-online.com/catalog/datasheet/830024940.pdf; DATASHEET-URL: https://www.we-online.com/catalog/datasheet/830026548.pdf; DATASHEET-URL: https://www.we-online.com/catalog/datasheet/830026900.pdf; DATASHEET-URL: https://www.we-online.com/catalog/datasheet/830026902.pdf; DATASHEET-URL: https://www.we-online.com/catalog/datasheet/830026904.pdf; DATASHEET-URL: https://www.we-online.com/catalog/datasheet/830026908.pdf; DATASHEET-URL: https://www.we-online.com/catalog/datasheet/830026911.pdf; DATASHEET-URL: https://www.we-online.com/catalog/datasheet/830027527.pdf; DATASHEET-URL: https://www.we-online.com/catalog/datasheet/830028392.pdf; DATASHEET-URL: https://www.we-online.com/catalog/datasheet/830028430.pdf; DATASHEET-URL: https://www.we-online.com/catalog/datasheet/830028710.pdf; DATASHEET-URL: https://www.we-online.com/catalog/datasheet/830028928.pdf; DATASHEET-URL: https://www.we-online.com/catalog/datasheet/830029370.pdf; DATASHEET-URL: https://www.we-online.com/catalog/datasheet/830029914.pdf; DATASHEET-URL: https://www.we-online.com/catalog/datasheet/830030798.pdf; DATASHEET-URL: https://www.we-online.com/catalog/datasheet/830033158.pdf; DATASHEET-URL: https://www.we-online.com/catalog/datasheet/830033580.pdf; DATASHEET-URL: https://www.we-online.com/catalog/datasheet/830034122.pdf; DATASHEET-URL: https://www.we-online.com/catalog/datasheet/830034225.pdf; DATASHEET-URL: https://www.we-online.com/catalog/datasheet/830034439.pdf; DATASHEET-URL: https://www.we-online.com/catalog/datasheet/830034654.pdf; DATASHEET-URL: https://www.we-online.com/catalog/datasheet/830035293.pdf; DATASHEET-URL: https://www.we-online.com/catalog/datasheet/830036034.pdf; DATASHEET-URL: https://www.we-online.com/catalog/datasheet/830036533.pdf; DATASHEET-URL: https://www.we-online.com/catalog/datasheet/830036956.pdf; DATASHEET-URL: https://www.we-online.com/catalog/datasheet/830050510.pdf; DATASHEET-URL: https://www.we-online.com/catalog/datasheet/830051235.pdf; DATASHEET-URL: https://www.we-online.com/catalog/datasheet/830054555.pdf; DATASHEET-URL: https://www.we-online.com/catalog/datasheet/830056463.pdf; DATASHEET-URL: https://www.we-online.com/catalog/datasheet/830061856.pdf; DATASHEET-URL: https://www.we-online.com/catalog/datasheet/830063075.pdf
footprint WE-XTAL_HC49/4HSMX
pins: 1, 2

## WE-XTAL_IQXC-25
designator Y?, comment WE-XTAL Watch Crystals   Characteristics   SMT and THT models  Hermetically sealed  Frequency: 32.768 kHz  Tolerances down to Â±10 ppm available   Characteristics   Microprocessor  Real Time Clocks  Test and Measurement Equipment  Battery powered Applications       Details see: https://www.we-online.com/catalog/en/WE-XTAL_WATCHCRYSTAL  Updated by Ella Wu, 2020-10-30  2020 (C) Wurth Elektronik
PART-NUMBER: 830050789; PART-NUMBER: 830062558; PART-NUMBER: 830105946101; PART-NUMBER: 830106545501; PART-NUMBER: 830107326401; GateName_1: G$1; DeviceSetName: WE-XTAL_IQXC-25; C-LOAD: 12.5pF; TOLERANCE: ±20ppm; C-LOAD: 9pF; TOLERANCE: ±10ppm; C-LOAD: 7pF; C-LOAD: 6pF; C-LOAD: 4pF; SymbolName_1: CRYSTAL; LibraryName: Eagle_WE-XTAL (rev21c) v1; Package: WE-XTAL_IQXC-25; DATASHEET-URL: https://www.we-online.com/catalog/datasheet/830050789.pdf; MOUNT: SMT; DATASHEET-URL: https://www.we-online.com/catalog/datasheet/830062558.pdf; DATASHEET-URL: https://www.we-online.com/catalog/datasheet/830105946101.pdf; DATASHEET-URL: https://www.we-online.com/catalog/datasheet/830106545501.pdf; DATASHEET-URL: https://www.we-online.com/catalog/datasheet/830107326401.pdf
footprint WE-XTAL_IQXC-25
pins: 1, 2

## WE-XTAL_IQXC-26
designator Y?, comment WE-XTAL Quartz Crystal   Characteristics   SMT and THT models   Hermetically sealed   Frequencies between 1.8432 MHz and 50 MHz   Tolerances down to Â±10 ppm available   Maximum operating temperatures range: -40 Â°C to 85 Â°C   Stabilities down to Â±10 ppm available   Applications   Microprocessor   Wireless Communication Devices   Industrial Devices   Wired Communication (e.g. Ethernet and USB)   IoT   Optical Network   Audio and Multimedia Devices   Test and Measurement Equipment   Navigation and Locators   Wearables       Details see: https://www.we-online.com/catalog/en/WE-XTAL  Updated by Ella Wu, 2021-08-18  2021 (C) Wurth Elektronik
PART-NUMBER: 830066742; PART-NUMBER: 830069526; PART-NUMBER: 830069527; PART-NUMBER: 830069528; PART-NUMBER: 830072539; PART-NUMBER: 830072541; PART-NUMBER: 830081609; PART-NUMBER: 830081620; PART-NUMBER: 830108160801; PART-NUMBER: 830108161001; PART-NUMBER: 830108161201; PART-NUMBER: 830108161301; PART-NUMBER: 830108161401; PART-NUMBER: 830108161601; PART-NUMBER: 830108161901; GateName_1: G$1; SymbolName_1: CRYSTAL-4PIN; DeviceSetName: WE-XTAL_IQXC-26; C-LOAD: 8pF; STABILITY: 15ppm; TOLERANCE: ±15ppm; STABILITY: 20ppm; TOLERANCE: ±10ppm; LibraryName: Eagle_WE-XTAL (rev21c) v1; Package: WE-XTAL_IQXC-26; DATASHEET-URL: https://www.we-online.com/catalog/datasheet/830066742.pdf; MOUNT: SMT; DATASHEET-URL: https://www.we-online.com/catalog/datasheet/830069526.pdf; DATASHEET-URL: https://www.we-online.com/catalog/datasheet/830069527.pdf; DATASHEET-URL: https://www.we-online.com/catalog/datasheet/830069528.pdf; DATASHEET-URL: https://www.we-online.com/catalog/datasheet/830072539.pdf; DATASHEET-URL: https://www.we-online.com/catalog/datasheet/830072541.pdf; DATASHEET-URL: https://www.we-online.com/catalog/datasheet/830081609.pdf; DATASHEET-URL: https://www.we-online.com/catalog/datasheet/830081620.pdf; DATASHEET-URL: https://www.we-online.com/catalog/datasheet/830108160801.pdf; DATASHEET-URL: https://www.we-online.com/catalog/datasheet/830108161001.pdf; DATASHEET-URL: https://www.we-online.com/catalog/datasheet/830108161201.pdf; DATASHEET-URL: https://www.we-online.com/catalog/datasheet/830108161301.pdf; DATASHEET-URL: https://www.we-online.com/catalog/datasheet/830108161401.pdf; DATASHEET-URL: https://www.we-online.com/catalog/datasheet/830108161601.pdf; DATASHEET-URL: https://www.we-online.com/catalog/datasheet/830108161901.pdf
footprint WE-XTAL_IQXC-26
pins: 1, 2,4 GND, 3 2

## WE-XTAL_IQXC-42
designator Y?, comment WE-XTAL Quartz Crystal   Characteristics   SMT and THT models   Hermetically sealed   Frequencies between 1.8432 MHz and 50 MHz   Tolerances down to Â±10 ppm available   Maximum operating temperatures range: -40 Â°C to 85 Â°C   Stabilities down to Â±10 ppm available   Applications   Microprocessor   Wireless Communication Devices   Industrial Devices   Wired Communication (e.g. Ethernet and USB)   IoT   Optical Network   Audio and Multimedia Devices   Test and Measurement Equipment   Navigation and Locators   Wearables       Details see: https://www.we-online.com/catalog/en/WE-XTAL  Updated by Ella Wu , 2020-11-23  2020 (C) Wurth Elektronik
PART-NUMBER: 830059585; PART-NUMBER: 830059591; PART-NUMBER: 830059596; PART-NUMBER: 830059597; PART-NUMBER: 830059627; PART-NUMBER: 830059632; PART-NUMBER: 830069493; PART-NUMBER: 830069494; PART-NUMBER: 830072543; PART-NUMBER: 830072546; PART-NUMBER: 830108178109; PART-NUMBER: 830108212309; PART-NUMBER: 830108212509; PART-NUMBER: 830108212609; PART-NUMBER: 830108212709; PART-NUMBER: 830108212809; PART-NUMBER: 830108212909; PART-NUMBER: 830108213009; PART-NUMBER: 830108213109; PART-NUMBER: 830108213209; PART-NUMBER: 830108213509; PART-NUMBER: 830108246809; PART-NUMBER: 830108288709; GateName_1: G$1; SymbolName_1: CRYSTAL-4PIN; DeviceSetName: WE-XTAL_IQXC-42; C-LOAD: 10pF; STABILITY: 20ppm; TOLERANCE: ±15ppm; STABILITY: 30ppm; C-LOAD: 8pF; TOLERANCE: ±10ppm; STABILITY: 15ppm; LibraryName: Eagle_WE-XTAL (rev21c) v1; Package: WE-XTAL_IQXC-42; DATASHEET-URL: https://www.we-online.com/catalog/datasheet/830059585.pdf; MOUNT: SMT; DATASHEET-URL: https://www.we-online.com/catalog/datasheet/830059591.pdf; DATASHEET-URL: https://www.we-online.com/catalog/datasheet/830059596.pdf; DATASHEET-URL: https://www.we-online.com/catalog/datasheet/830059597.pdf; DATASHEET-URL: https://www.we-online.com/catalog/datasheet/830059627.pdf; DATASHEET-URL: https://www.we-online.com/catalog/datasheet/830059632.pdf; DATASHEET-URL: https://www.we-online.com/catalog/datasheet/830069493.pdf; DATASHEET-URL: https://www.we-online.com/catalog/datasheet/830069494.pdf; DATASHEET-URL: https://www.we-online.com/catalog/datasheet/830072543.pdf; DATASHEET-URL: https://www.we-online.com/catalog/datasheet/830072546.pdf; DATASHEET-URL: https://www.we-online.com/catalog/datasheet/830108178109.pdf; DATASHEET-URL: https://www.we-online.com/catalog/datasheet/830108212309.pdf; DATASHEET-URL: https://www.we-online.com/catalog/datasheet/830108212509.pdf; DATASHEET-URL: https://www.we-online.com/catalog/datasheet/830108212609.pdf; DATASHEET-URL: https://www.we-online.com/catalog/datasheet/830108212709.pdf; DATASHEET-URL: https://www.we-online.com/catalog/datasheet/830108212809.pdf; DATASHEET-URL: https://www.we-online.com/catalog/datasheet/830108212909.pdf; DATASHEET-URL: https://www.we-online.com/catalog/datasheet/830108213009.pdf; DATASHEET-URL: https://www.we-online.com/catalog/datasheet/830108213109.pdf; DATASHEET-URL: https://www.we-online.com/catalog/datasheet/830108213209.pdf; DATASHEET-URL: https://www.we-online.com/catalog/datasheet/830108213509.pdf; DATASHEET-URL: https://www.we-online.com/catalog/datasheet/830108246809.pdf; DATASHEET-URL: https://www.we-online.com/catalog/datasheet/830108288709.pdf
footprint WE-XTAL_IQXC-42
pins: 1, 2,4 GND, 3 2

## WE-XTAL_IQXC-90
designator Y?, comment WE-XTAL Watch Crystals   Characteristics   SMT and THT models  Hermetically sealed  Frequency: 32.768 kHz  Tolerances down to Â±10 ppm available   Characteristics   Microprocessor  Real Time Clocks  Test and Measurement Equipment  Battery powered Applications       Details see: https://www.we-online.com/catalog/en/WE-XTAL_WATCHCRYSTAL  Updated by Ella Wu, 2020-10-30  2020 (C) Wurth Elektronik
PART-NUMBER: 830065253; PART-NUMBER: 830066198; PART-NUMBER: 830066431; PART-NUMBER: 830107088501; PART-NUMBER: 830108214001; GateName_1: G$1; DeviceSetName: WE-XTAL_IQXC-90; C-LOAD: 12.5pF; TOLERANCE: ±20ppm; C-LOAD: 9pF; C-LOAD: 7pF; C-LOAD: 6pF; C-LOAD: 4pF; SymbolName_1: CRYSTAL; LibraryName: Eagle_WE-XTAL (rev21c) v1; Package: WE-XTAL_IQXC-90; DATASHEET-URL: https://www.we-online.com/catalog/datasheet/830065253.pdf; MOUNT: SMT; DATASHEET-URL: https://www.we-online.com/catalog/datasheet/830066198.pdf; DATASHEET-URL: https://www.we-online.com/catalog/datasheet/830066431.pdf; DATASHEET-URL: https://www.we-online.com/catalog/datasheet/830107088501.pdf; DATASHEET-URL: https://www.we-online.com/catalog/datasheet/830108214001.pdf
footprint WE-XTAL_IQXC-90
pins: 1, 2

## WE-XTAL_IQXC-146
designator Y?, comment WE-XTAL Watch Crystals   Characteristics   SMT and THT models  Hermetically sealed  Frequency: 32.768 kHz  Tolerances down to Â±10 ppm available   Characteristics   Microprocessor  Real Time Clocks  Test and Measurement Equipment  Battery powered Applications       Details see: https://www.we-online.com/catalog/en/WE-XTAL_WATCHCRYSTAL  Updated by Ella Wu, 2021-05-05  2021 (C) Wurth Elektronik
PART-NUMBER: 830107834801; PART-NUMBER: 830108091501; PART-NUMBER: 830108211801; GateName_1: G$1; SymbolName_1: CRYSTAL-4PIN-1; DeviceSetName: WE-XTAL_IQXC-146; C-LOAD: 6pF; TOLERANCE: ±20ppm; C-LOAD: 12.5pF; C-LOAD: 7pF; LibraryName: Eagle_WE-XTAL (rev21c) v1; Package: WE-XTAL_IQXC-146; DATASHEET-URL: https://www.we-online.com/catalog/datasheet/830107834801.pdf; MOUNT: SMT; DATASHEET-URL: https://www.we-online.com/catalog/datasheet/830108091501.pdf; DATASHEET-URL: https://www.we-online.com/catalog/datasheet/830108211801.pdf
footprint WE-XTAL_IQXC-146
pins: 1, 2 GND, 3 2, 4 N/C

## WE-XTAL_IQXC-240
designator Y?, comment WE-XTAL Quartz Crystal   Characteristics   SMT and THT models   Hermetically sealed   Frequencies between 1.8432 MHz and 50 MHz   Tolerances down to Â±10 ppm available   Maximum operating temperatures range: -40 Â°C to 85 Â°C   Stabilities down to Â±10 ppm available   Applications   Microprocessor   Wireless Communication Devices   Industrial Devices   Wired Communication (e.g. Ethernet and USB)   IoT   Optical Network   Audio and Multimedia Devices   Test and Measurement Equipment   Navigation and Locators   Wearables       Details see: https://www.we-online.com/catalog/en/WE-XTAL  Created by Ella Wu, 2021-04-28 2021 (C) Wurth Elektronik
PART-NUMBER: 830108049101; PART-NUMBER: 830108131401; PART-NUMBER: 830108131601; PART-NUMBER: 830108254201; GateName_1: G$1; SymbolName_1: CRYSTAL-4PIN-1; DeviceSetName: WE-XTAL_IQXC-240; C-LOAD: 8pF; STABILITY: 10ppm; TOLERANCE: ±10ppm; C-LOAD: 5pF; STABILITY: 15ppm; TOLERANCE: ±7ppm; LibraryName: Eagle_WE-XTAL (rev21c) v1; Package: WE-XTAL_IQXC-240; DATASHEET-URL: https://www.we-online.com/catalog/datasheet/830108049101.pdf; MOUNT: SMT; DATASHEET-URL: https://www.we-online.com/catalog/datasheet/830108131401.pdf; DATASHEET-URL: https://www.we-online.com/catalog/datasheet/830108131601.pdf; DATASHEET-URL: https://www.we-online.com/catalog/datasheet/830108254201.pdf
footprint WE-XTAL_IQXC-240
pins: 1, 2 GND, 3 2, 4 N/C

## WE-XTAL_WATCH_2X6
designator Y?, comment WE-XTAL Watch Crystals   Characteristics   SMT and THT models  Hermetically sealed  Frequency: 32.768 kHz  Tolerances down to Â±10 ppm available   Characteristics   Microprocessor  Real Time Clocks  Test and Measurement Equipment  Battery powered Applications       Details see: https://www.we-online.com/catalog/en/WE-XTAL_WATCHCRYSTAL  Updated by Ella Wu, 2020-10-30  2020 (C) Wurth Elektronik
PART-NUMBER: 830002997B; PART-NUMBER: 830014219B; GateName_1: G$1; DeviceName: _2X6; C-LOAD: 12.5pF; TOLERANCE: ±20ppm; C-LOAD: 6pF; SymbolName_1: CRYSTAL; LibraryName: Eagle_WE-XTAL (rev21c) v1; DeviceSetName: WE-XTAL_WATCH; Package: WE-XTAL_WATCH-2X6; DATASHEET-URL: https://www.we-online.com/catalog/datasheet/830002997B.pdf; MOUNT: THT; DATASHEET-URL: https://www.we-online.com/catalog/datasheet/830014219B.pdf
footprint WE-XTAL_WATCH-2X6
pins: 1, 2

## WE-XTAL_WATCH_3X8
designator Y?, comment WE-XTAL Watch Crystals   Characteristics   SMT and THT models  Hermetically sealed  Frequency: 32.768 kHz  Tolerances down to Â±10 ppm available   Characteristics   Microprocessor  Real Time Clocks  Test and Measurement Equipment  Battery powered Applications       Details see: https://www.we-online.com/catalog/en/WE-XTAL_WATCHCRYSTAL  Updated by Ella Wu, 2020-10-30  2020 (C) Wurth Elektronik
PART-NUMBER: 830002995B; PART-NUMBER: 830002996B; GateName_1: G$1; DeviceName: _3X8; C-LOAD: 12.5pF; TOLERANCE: ±20ppm; TOLERANCE: ±15ppm; SymbolName_1: CRYSTAL; LibraryName: Eagle_WE-XTAL (rev21c) v1; DeviceSetName: WE-XTAL_WATCH; Package: WE-XTAL_WATCH-3X8; DATASHEET-URL: https://www.we-online.com/catalog/datasheet/830002995B.pdf; MOUNT: THT; DATASHEET-URL: https://www.we-online.com/catalog/datasheet/830002996B.pdf
footprint WE-XTAL_WATCH-3X8
pins: 1, 2